# Altium schematic symbol library HDR_2X10.SchLib: 1 symbol
Pins are listed as number, name and electrical type; pins without a type are passive.

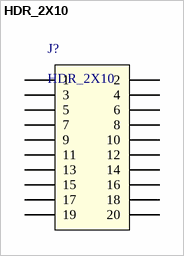
[diagram p0: symbol HDR_2X10]

## HDR_2X10
designator J?
HDR_2X10 pitch2.54mm
pins: 1, 2, 3, 4, 5, 6, 7, 8, 9, 10, 11, 12, 13, 14, 15, 16, 17, 18, 19, 20